# Altium integrated library Type-C_16PIN.IntLib: 1 symbol
Pins are listed as number, name and electrical type; pins without a type are passive.

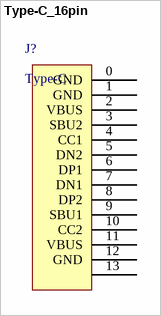
[diagram p0: symbol Type-C_16pin]

## Type-C_16pin
designator J?, comment Type-C
footprint Type-C_16pin
pins: 0 GND, 1 GND, 2 VBUS, 3 SBU2, 4 CC1, 5 DN2, 6 DP1, 7 DN1, 8 DP2, 9 SBU1, 10 CC2, 11 VBUS, 12 GND, 13